# EAGLE library part SN65HVD232D (library debauer_ics)
3.3-V CAN TRANSCEIVERS
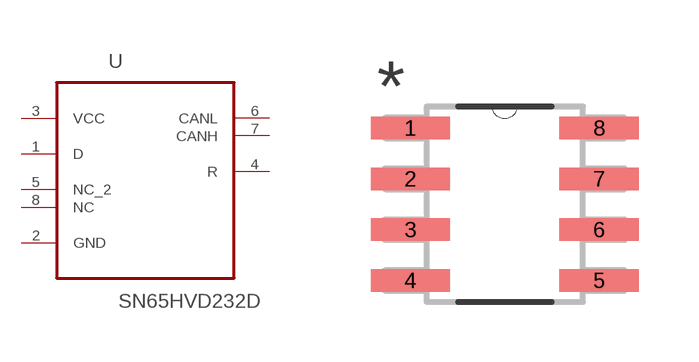
[diagram p3: symbol with the pads of SOIC127P600X175-8N; footprint SOIC127P600X175-8N]

Designator prefix U

## SN65HVD232D (MPN: SN65HVD232D; OC_BUERKLIN: 41 S 4165; OC_FARNELL: 1103107; OC_NEWARK: 35K4890; PACKAGE: SOIC-8; SUPPLIER: Texas Instruments)  [SOIC127P600X175-8N]
1  D  in
2  GND  pas
3  VCC  pwr
4  R  out
5  NC_2  nc
6  CANL  out
7  CANH  out
8  NC  nc

## Footprint SOIC127P600X175-8N (pad centres in mm)
smd 1.981 x 0.559: 1 -2.362,1.905; 2 -2.362,0.635; 3 -2.362,-0.635; 4 -2.362,-1.905; 5 2.362,-1.905; 6 2.362,-0.635; 7 2.362,0.635; 8 2.362,1.905